# Altium footprint library PCB - POWER INDUCTORS - WURTH WE-ACHC 7449152090.PcbLib: 1 footprints
Each footprint in its own frame and in the unit in brackets; x right, y up, seen from the top. Pads: shape width x height; smd on the part's side, far side on the other; paste and mask are expansions set on the pad; w line width, h text height; cw(c..) or ccw(c..) is an arc to the next point about the centre after c.
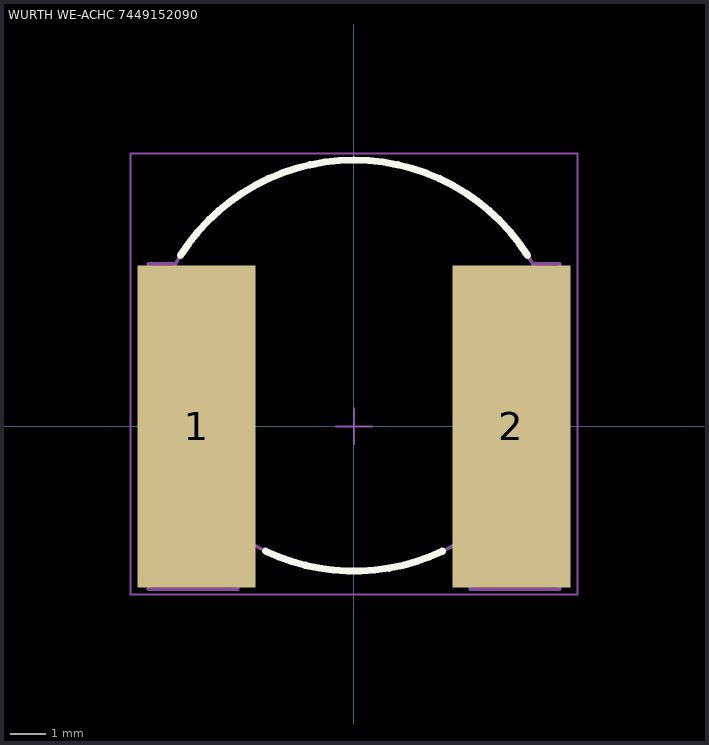
[diagram p0: the footprint, top view; thin cyan lines are the x and y axes]

## WURTH WE-ACHC 7449152090 [mm] "Air Coil High Current Inductor, size 1212"
height 10.4
pads (2):
  rect 3.3x9 smd: 1(-4.4,0) 2(4.4,0)
Top Overlay:
  lines w0.2: -4.853,4.784 cw(c0,1.7) 4.853,4.784 ; -2.474,-3.49 ccw(c0,1.7) 2.47,-3.492
Top 3D Body:
  circle w0.1: c0,1.7 r5.75
  lines w0.1: -5,4.55 -5.75,4.55 -5.75,-4.55 -3.25,-4.55 -3.25,-3.05 ; 3.25,-3.05 3.25,-4.55 5.75,-4.55 5.75,4.55 5,4.55
Top Component Outline:
  circle w0.1: c0,1.7 r5.75
  lines w0.1: -5,4.55 -5.75,4.55 -5.75,-4.55 -3.25,-4.55 -3.25,-3.05 ; 3.25,-3.05 3.25,-4.55 5.75,-4.55 5.75,4.55 5,4.55
Top Courtyard:
  lines w0.05: -0.5,0 0.5,0 ; 0,-0.5 0,0.5 ; -6.25,-4.7 6.25,-4.7 6.25,7.63 -6.25,7.63 -6.25,-4.7
3D body "7449152090.stp": height 10.51, standoff 0.05, extent -5.75,-4.57 5.75,7.43